# Altium schematic symbol library Crystals.SchLib: 2 symbols
Pins are listed as number, name and electrical type; pins without a type are passive.

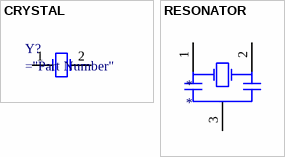
[diagram p0: symbols CRYSTAL to RESONATOR]

## CRYSTAL
designator Y?
pins: 1, 2

## RESONATOR
designator *
pins: 1, 2, 3